# EAGLE library part MAX16545BGPF+ (library 911_circuits)
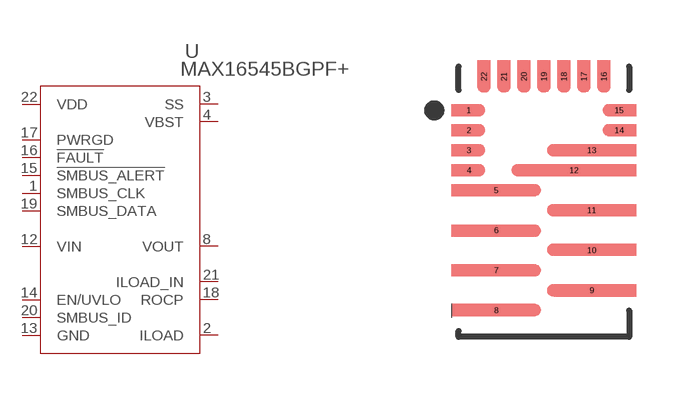
[diagram p10: symbol with the pads of 21-1006_P224A6F+1_MXM; footprint 21-1006_P224A6F+1_MXM]

Designator prefix U

## MAX16545BGPF+ (COPYRIGHT: Copyright (C) 2025 Ultra Librarian. All rights reserved.; MANUFACTURER_PART_NUMBER: MAX16545BGPF+; MFR_NAME: Analog Devices / Maxim Integrated)  [21-1006_P224A6F+1_MXM]
1  SMBUS_CLK  pas
2  ILOAD  pas
3  SS  pas
4  VBST  pas
5  VOUT_2  pwr
6  VOUT_3  pwr
7  VOUT_4  pwr
8  VOUT  pwr
9  VIN_2  pwr
10  VIN_3  pwr
11  VIN_4  pwr
12  VIN  pwr
13  GND  pwr
14  EN/UVLO  in
15  !SMBUS_ALERT  pas
16  !FAULT
17  PWRGD  pas
18  ROCP  in
19  SMBUS_DATA  pas
20  SMBUS_ID  pas
21  ILOAD_IN  in
22  VDD  pwr

## Footprint 21-1006_P224A6F+1_MXM (pad centres in mm)
smd 0.127 x 0.127: 1 -1.881,2.29; 2 -1.881,1.79; 3 -1.881,1.29; 4 -1.881,0.79; 5 -1.195,0.29; 6 -1.195,-0.71; 7 -1.195,-1.71; 8 -1.195,-2.71; 9 1.195,-2.21; 10 1.195,-1.21; 11 1.195,-0.21; 12 0.751,0.79; 13 1.195,1.29; 14 1.881,1.79; 15 1.881,2.29; 16 1.5,3.127; 17 1,3.127; 18 0.5,3.127; 19 0,3.127; 20 -0.5,3.127; 21 -1,3.127; 22 -1.5,3.127